# Altium footprint library Qilin.PcbLib: 10 footprints
Each footprint in its own frame and in the unit in brackets; x right, y up, seen from the top. Pads: shape width x height; smd on the part's side, far side on the other; paste and mask are expansions set on the pad; w line width, h text height; cw(c..) or ccw(c..) is an arc to the next point about the centre after c.
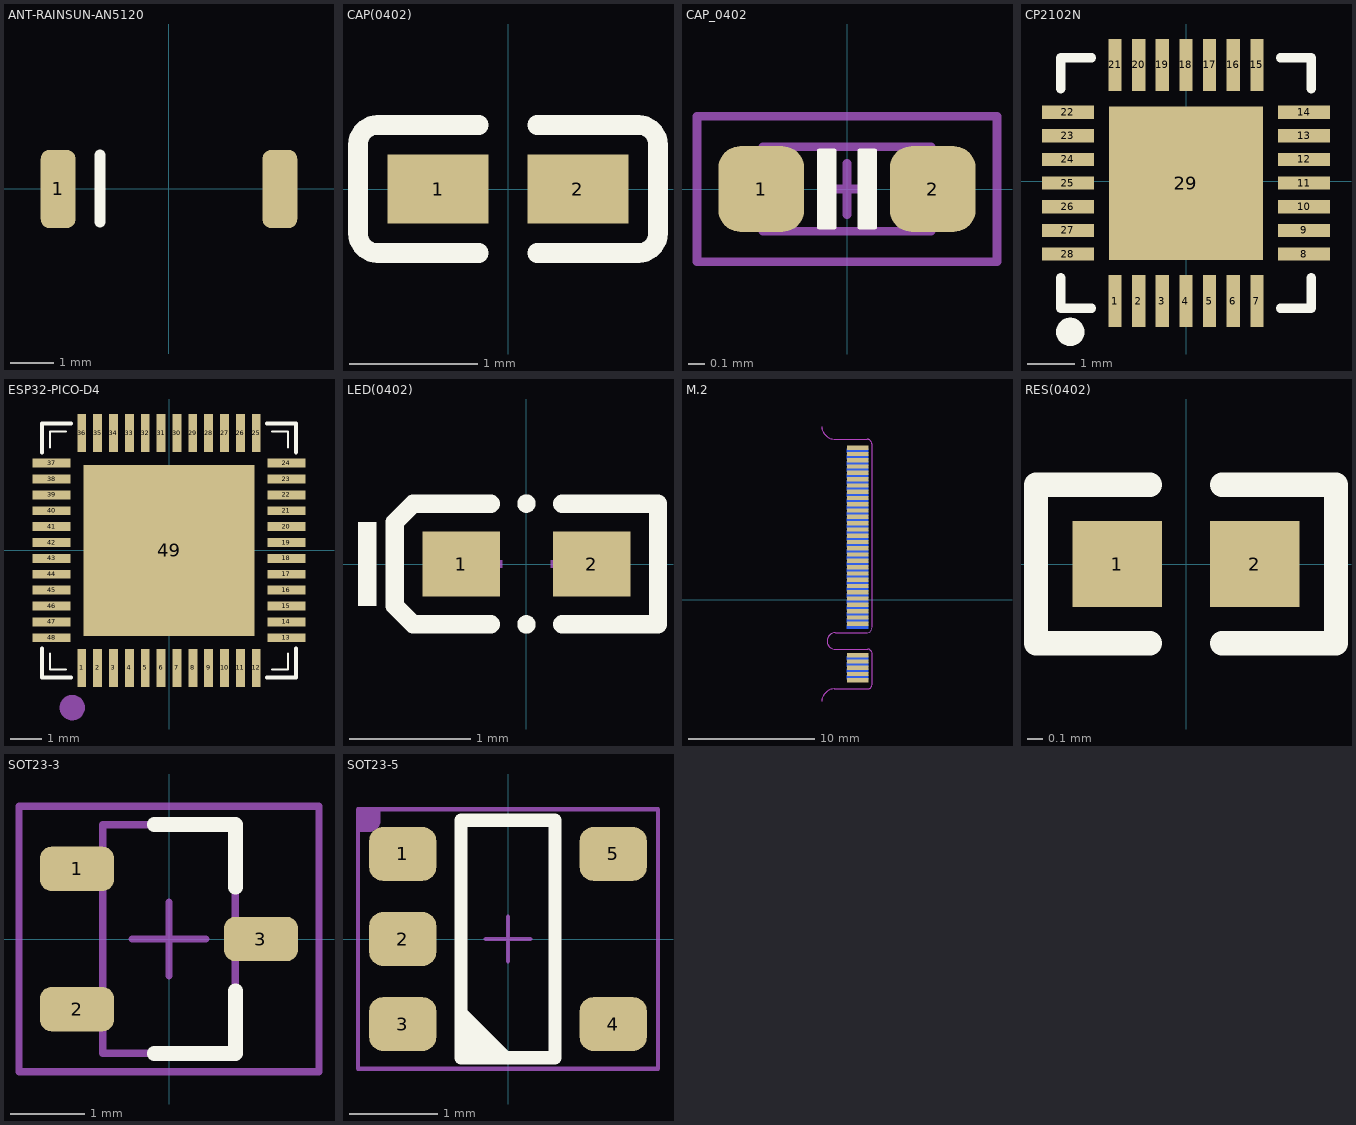
[diagram p0: the footprints below, top view; thin cyan lines are the x and y axes]

## ANT-RAINSUN-AN5120 [mm]
pads (2):
  rrect50% 0.8x1.8 smd: 1(-2.54,0) ""(2.563,0)
Top Overlay:
  lines w0.254: -1.575,-0.762 -1.575,0.787
3D body "123.stp": height 1.32, standoff -0.01, extent -2.573,-0.911 2.542,0.935

## CAP(0402) [mm]
pads (2):
  rect 0.79x0.54 smd: 1(-0.545,0) 2(0.545,0)
Top Overlay:
  lines w0.152: -0.226,-0.499 -1.016,-0.499 cw(c-1.016,-0.346) -1.169,-0.346 -1.169,0.346 cw(c-1.016,0.346) -1.016,0.499 -0.226,0.499 ; 0.226,-0.499 1.016,-0.499 ccw(c1.016,-0.346) 1.169,-0.346 1.169,0.346 ccw(c1.016,0.346) 1.016,0.499 0.226,0.499
Top Paste:
  region: -0.18,0.225 -0.18,-0.225 -0.25,-0.275 -0.73,-0.275 -0.78,-0.225 -0.78,0.225 -0.73,0.275 -0.25,0.275
  region: 0.78,0.225 0.78,-0.225 0.73,-0.275 0.25,-0.275 0.18,-0.225 0.18,0.225 0.25,0.275 0.73,0.275
Mechanical 15:
  lines w0.003: 0.292,0.102 0.343,0.152
3D body "User Library-0402C.step": height 0.36, standoff 0, extent -0.475,-0.256 0.525,0.274

## CAP_0402 [mil]
pads (2):
  rrect50% 20x20 smd: 1(-20,0) 2(20,0)
Top Overlay:
  region: -6.5,-9 -3,-9 -3,9 -6.5,9
  region: 6.5,9 3,9 3,-9 6.5,-9
  lines w1: -6.5,-9 -3,-9 -3,9 -6.5,9 -6.5,-9 ; 3,-9 3,9 6.5,9 6.5,-9 3,-9
Mechanical 13:
  lines w2: -6,0 6,0 ; 0,-6 0,6 ; -19.69,-9.84 19.68,-9.84 19.68,9.84 -19.69,9.84 -19.69,-9.84
Mechanical 14:
  lines w2: -35,-17 35,-17 35,17 -35,17 -35,-17
3D body "CAPC1005X05L.step": height 19.68, standoff 0, extent -19.68,-9.84 19.69,9.85

## CP2102N [mm] "QFN28 5*5"
pads (29):
  rect 0.28x1.1 smd: 1(-1.509,-2.54) 2(-1.008,-2.54) 3(-0.508,-2.54) 4(-0.008,-2.54) 5(0.493,-2.54) 6(0.993,-2.54) 7(1.494,-2.54) 15(1.494,2.46) 16(0.993,2.46) 17(0.493,2.46) 18(-0.008,2.46) 19(-0.508,2.46) 20(-1.008,2.46) 21(-1.509,2.46)
  rect 1.1x0.28 smd: 8(2.493,-1.541) 9(2.493,-1.041) 10(2.493,-0.541) 11(2.493,-0.04) 12(2.493,0.46) 13(2.493,0.961) 14(2.493,1.461) 22(-2.507,1.461) 23(-2.507,0.961) 24(-2.507,0.46) 25(-2.507,-0.04) 26(-2.507,-0.541) 27(-2.507,-1.041) 28(-2.507,-1.541)
  rect 3.25x3.25 smd: 29(-0.008,-0.04)
Top Overlay:
  lines w0.2: -2.658,-2.04 -2.658,-2.69 -2.008,-2.69 ; -2.658,1.96 -2.658,2.61 -2.008,2.61 ; 1.992,-2.69 2.642,-2.69 2.642,-2.04 ; 1.992,2.61 2.642,2.61 2.642,1.96
  lines w0.3: -2.459,-3.04 ccw(c-2.458,-3.19) -2.456,-3.04
3D body "User Library-CP2102.step": height 0.97, standoff 0, extent -2.585,-2.632 2.555,2.508

## ESP32-PICO-D4 [mm] "QFN-48 7*7"
pads (49):
  rect 0.28x1.2 smd: 1(-2.75,-3.7) 2(-2.25,-3.7) 3(-1.75,-3.7) 4(-1.25,-3.7) 5(-0.75,-3.7) 6(-0.25,-3.7) 7(0.25,-3.7) 8(0.75,-3.7) 9(1.25,-3.7) 10(1.75,-3.7) 11(2.25,-3.7) 12(2.75,-3.7) 25(2.75,3.7) 26(2.25,3.7) 27(1.75,3.7) 28(1.25,3.7) 29(0.75,3.7) 30(0.25,3.7) 31(-0.25,3.7) 32(-0.75,3.7) 33(-1.25,3.7) 34(-1.75,3.7) 35(-2.25,3.7) 36(-2.75,3.7)
  rect 1.2x0.28 smd: 13(3.7,-2.75) 14(3.7,-2.25) 15(3.7,-1.75) 16(3.7,-1.25) 17(3.7,-0.75) 18(3.7,-0.25) 19(3.7,0.25) 20(3.7,0.75) 21(3.7,1.25) 22(3.7,1.75) 23(3.7,2.25) 24(3.7,2.75) 37(-3.7,2.75) 38(-3.7,2.25) 39(-3.7,1.75) 40(-3.7,1.25) 41(-3.7,0.75) 42(-3.7,0.25) 43(-3.7,-0.25) 44(-3.7,-0.75) 45(-3.7,-1.25) 46(-3.7,-1.75) 47(-3.7,-2.25) 48(-3.7,-2.75)
  rect 5.4x5.4 smd: 49(0,0)
Top Overlay:
  lines w0.064: -3.75,-3.25 -3.75,-3.75 -3.25,-3.75 ; -3.75,3.25 -3.75,3.75 -3.25,3.75 ; 3.25,-3.75 3.75,-3.75 3.75,-3.25 ; 3.25,3.75 3.75,3.75 3.75,3.25
  lines w0.127: -4,-3.095 -4,-4 -3.084,-4 ; -4,3.085 -4,4 -3.095,4 ; 3.085,4 4,4 4,3.095 ; 3.095,-4 4,-4 4,-3.084
Mechanical 15:
  circle w0.4: c-3.048,-4.953 r0.2
3D body "User Library-QFN48-2.step": height 0.9, standoff 0, extent -3.525,-3.525 3.525,3.525

## LED(0402) [mm]
pads (2):
  rect 0.636x0.54 smd: 1(-0.538,0) 2(0.538,0)
Top Overlay:
  circle w0.076: c0,-0.499 r0.038
  circle w0.076: c0,0.499 r0.038
  region: -1.237,-0.346 -1.237,0.346 -1.39,0.346 -1.39,-0.346
  lines w0.152: -0.296,-0.499 -0.933,-0.499 -1.085,-0.346 -1.085,0.346 -0.933,0.499 -0.296,0.499 ; 0.296,-0.499 1.085,-0.499 1.085,0.499 0.296,0.499
Top Paste:
  region: 0.198,-0.23 0.198,0.23 0.238,0.27 0.816,0.27 0.856,0.23 0.856,-0.23 0.816,-0.27 0.238,-0.27
  region: -0.198,-0.23 -0.198,0.23 -0.238,0.27 -0.816,0.27 -0.856,0.23 -0.856,-0.23 -0.816,-0.27 -0.238,-0.27
Mechanical 15:
  region: -0.44,-0.03 -0.44,0.03 -0.2,0.03 -0.2,-0.03
  region: 0.44,-0.03 0.44,0.03 0.2,0.03 0.2,-0.03
  region: 0.35,-0.2 0.35,0.2 0.29,0.2 0.29,-0.2
3D body "User Library-LED_1006_O.STEP": height 0.2, standoff 0, extent -0.5,-0.3 0.5,0.3

## M.2 [mm]
pads (67):
  rect 1.7x0.34 smd: 1(14.416,12.087) 3(14.415,11.587) 5(14.415,11.086) 7(14.415,10.587) 9(14.415,10.086) 11(14.415,9.587) 13(14.415,9.086) 15(14.415,8.587) 17(14.415,8.086) 19(14.415,7.587) 21(14.415,7.086) 23(14.415,6.587) 25(14.415,6.086) 27(14.415,5.587) 29(14.415,5.086) 31(14.415,4.587) 33(14.415,4.086) 35(14.415,3.587) 37(14.415,3.086) 39(14.415,2.587) 41(14.415,2.086) 43(14.415,1.587) 45(14.415,1.086) 47(14.415,0.587) 49(14.415,0.086) 51(14.415,-0.413) 53(14.415,-0.914) 55(14.415,-1.413) 57(14.415,-1.914) 67(14.415,-4.413) 69(14.415,-4.914) 71(14.415,-5.413) 73(14.415,-5.914) 75(14.415,-6.413)
  rect 1.7x0.34 smd far side: 2(14.416,11.837) 4(14.415,11.338) 6(14.415,10.838) 8(14.415,10.338) 10(14.415,9.838) 12(14.415,9.338) 14(14.415,8.838) 16(14.415,8.338) 18(14.415,7.838) 20(14.415,7.336) 22(14.415,6.838) 24(14.415,6.338) 26(14.415,5.838) 28(14.415,5.338) 30(14.415,4.838) 32(14.415,4.338) 34(14.415,3.838) 36(14.415,3.338) 38(14.415,2.838) 40(14.415,2.338) 42(14.415,1.84) 44(14.415,1.338) 46(14.415,0.838) 48(14.415,0.338) 50(14.415,-0.162) 52(14.415,-0.662) 54(14.415,-1.162) 56(14.415,-1.662) 58(14.415,-2.162) 68(14.415,-4.662) 70(14.415,-5.162) 72(14.415,-5.662) 74(14.415,-6.162)
Keep-Out Layer:
  lines w0.025: 11.564,-8.093 cw(c12.564,-8.093) 12.564,-7.093 15.202,-7.098 ccw(c15.216,-6.758) 15.555,-6.719 ; 11.564,13.767 ccw(c12.564,13.767) 12.564,12.767 ; 11.566,-8.093 cw(c12.566,-8.093) 12.566,-7.093 15.203,-7.097 ccw(c15.218,-6.757) 15.556,-6.718 ; 11.566,13.767 ccw(c12.566,13.767) 12.566,12.767 15.178,12.777 ; 12.564,12.767 15.176,12.777 ; 15.151,-2.641 12.664,-2.643 ccw(c12.633,-3.293) 12.664,-3.943 15.227,-3.937 ; 15.151,12.777 cw(c15.13,12.35) 15.557,12.345 ; 15.152,-2.641 12.666,-2.643 ccw(c12.634,-3.293) 12.666,-3.943 15.228,-3.936 ; 15.152,12.777 cw(c15.131,12.35) 15.559,12.345 ; 15.211,-3.943 cw(c15.226,-4.283) 15.564,-4.323 15.557,-6.731 ; 15.213,-3.943 cw(c15.227,-4.283) 15.566,-4.322 15.559,-6.73 ; 15.557,-2.209 15.557,12.396 ; 15.559,-2.209 15.559,12.396
Mechanical 1:
  lines w0.025: 11.565,-8.095 cw(c12.565,-8.093) 12.563,-7.092 ; 11.565,13.766 ccw(c12.564,13.766) 12.566,12.767 15.176,12.777 ; 12.557,-7.093 15.202,-7.098 ccw(c15.216,-6.759) 15.555,-6.776 ; 15.176,12.774 cw(c15.13,12.35) 15.557,12.345 15.557,-2.21 ; 15.209,-3.939 cw(c15.223,-4.28) 15.562,-4.319 ; 15.211,-3.937 12.667,-3.942 cw(c12.635,-3.292) 12.636,-2.642 15.151,-2.642 ccw(c15.129,-2.216) 15.555,-2.21 ; 15.557,-6.762 15.564,-4.323

## RES(0402) [mm]
pads (2):
  rect 0.566x0.54 smd: 1(-0.433,0) 2(0.433,0)
Top Overlay:
  lines w0.152: -0.226,-0.499 -0.944,-0.499 -0.944,0.499 -0.226,0.499 ; 0.226,-0.499 0.944,-0.499 0.944,0.499 0.226,0.499
Top Paste:
  region: 0.135,-0.23 0.135,0.23 0.175,0.27 0.676,0.27 0.716,0.23 0.716,-0.23 0.676,-0.27 0.175,-0.27
  region: -0.135,-0.23 -0.135,0.23 -0.175,0.27 -0.676,0.27 -0.716,0.23 -0.716,-0.23 -0.676,-0.27 -0.175,-0.27
Mechanical 15:
  lines w0.003: 0.292,0.102 0.343,0.152
3D body "User Library-User Library-RES0402-2.step": height 0.35, standoff 0, extent -0.5,-0.25 0.5,0.25

## SOT23-3 [mm]
pads (3):
  rrect50% 1x0.6 smd: 1(-1.246,0.95) 2(-1.246,-0.95) 3(1.246,0)
Top Overlay:
  lines w0.2: -0.2,-1.55 0.9,-1.55 0.9,-0.7 ; -0.2,1.55 0.9,1.55 0.9,0.7
Mechanical 13:
  lines w0.1: -0.9,-1.55 -0.9,1.55 0.9,1.55 0.9,-1.55 -0.9,-1.55
Mechanical 15:
  lines w0.1: -0.5,0 0.5,0 ; 0,-0.5 0,0.5 ; -2.032,-1.8 -2.032,1.8 2.032,1.8 2.032,-1.8 -2.032,-1.8
3D body "SOT-23-3.stp": height 1.2, standoff 0, extent -1.298,-1.45 1.502,1.45

## SOT23-5 [mil]
pads (5):
  rrect50% 30x24 smd: 1(-47,38) 2(-47,0) 3(-47,-38) 4(47,-38) 5(47,38)
Top Overlay:
  region: -21,-53 3,-53 -21,-29
  lines w6: -21,-53 -21,53 21,53 21,-53 -21,-53
Mechanical 13:
  lines w2: -10,0 10,0 ; 0,-10 0,10
Mechanical 14:
  region: -67,58 -57,58 -57,53 -57,52.01 -57.76,50.17 -59.17,48.76 -61.01,48 -62,48 -67,48
  lines w2: -67,-58 -67,58 67,58 67,-58 -67,-58
3D body "User Library-SOT23-5-2.STEP": height 57.09, standoff 0, extent -55.11,-57.08 55.12,57.09